# Altium schematic symbol library 76829-0102.SchLib: 1 symbol
Pins are listed as number, name and electrical type; pins without a type are passive.

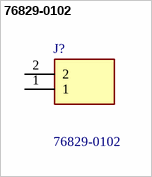
[diagram p0: symbol 76829-0102]

## 76829-0102
designator J?
Headers & Wire Housings MegaFit Slim Vert Hdr Assy 2 Ckt Tin; Manufacturer_Name: Molex; Geometry.Height: 15.05mm; Mouser Part Number: 538-76829-0102; Mouser Price/Stock: https://www.mouser.co.uk/ProductDetail/Molex/76829-0102?qs=BZBei1rCqCD7zvLSI%252BZz7Q%3D%3D; Manufacturer_Part_Number: 76829-0102; Datasheet Link: https://www.molex.com/pdm_docs/sd/768290102_sd.pdf
footprint 768290102
pins: 1, 2